# Altium footprint library RMPE15ДГ.PcbLib: 1 footprints
Each footprint in its own frame and in the unit in brackets; x right, y up, seen from the top. Pads: shape width x height; smd on the part's side, far side on the other; paste and mask are expansions set on the pad; w line width, h text height; cw(c..) or ccw(c..) is an arc to the next point about the centre after c.
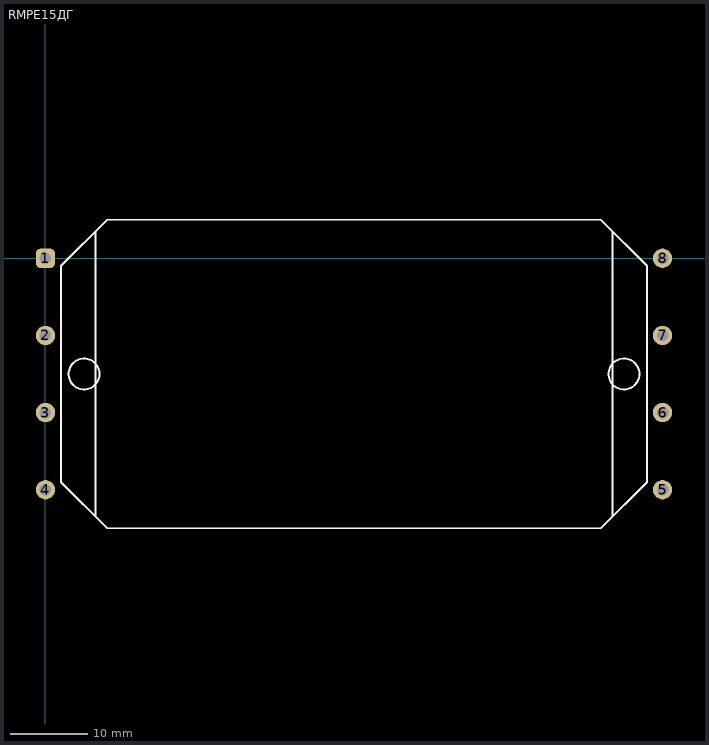
[diagram p0: the footprint, top view; thin cyan lines are the x and y axes]

## RMPE15ДГ [mm] "ИВЭП РМПЕ15ДГ"
pads (8):
  rrect50% 2.5x2.5 hole 1.5: 1(0,0)
  round 2.5 hole 1.5: 2(0,-10) 3(0,-20) 4(0,-30) 5(80,-30) 6(80,-20) 7(80,-10) 8(80,0)
Top Overlay:
  circle w0.254: c75,-15 r2
  circle w0.254: c5,-15 r2
  lines w0.254: 6.5,-33.5 6.5,3.5 ; 73.5,-33.5 73.5,3.5 ; 2,-29 8,-35 72,-35 78,-29 78,-1 72,5 8,5 2,-1 2,-29
3D body: height 2, standoff 0, extent 2,-35 78,5
3D body: height 12, standoff 2, extent 6.5,-35 73.5,5